# Altium schematic symbol library SnapEDAsch.SchLib: 1 symbol
Pins are listed as number, name and electrical type; pins without a type are passive.

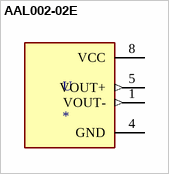
[diagram p0: symbol AAL002-02E]

## AAL002-02E
designator U
1.5 mT Sat. Analog Sensor, 5.5 KOhm, RoHS SOIC; MF: NVE; MP: AAL002-02E; Package: SOIC-8 NVE; SnapEDA_Link: https://www.snapeda.com/parts/AAL002-02E/NVE/view-part/75689/?ref=snap; Value: *; Price: None; Availability: Unavailable
footprint SOIC127P600X183-8N
pins: 1 VOUT- (out), 4 GND (power), 5 VOUT+ (out), 8 VCC (power)